# Altium footprint library conn_sw.PCBLIB: 173 footprints (part 1 of 11)
Each footprint in its own frame and in the unit in brackets; x right, y up, seen from the top. Pads: shape width x height; smd on the part's side, far side on the other; paste and mask are expansions set on the pad; w line width, h text height; cw(c..) or ccw(c..) is an arc to the next point about the centre after c.
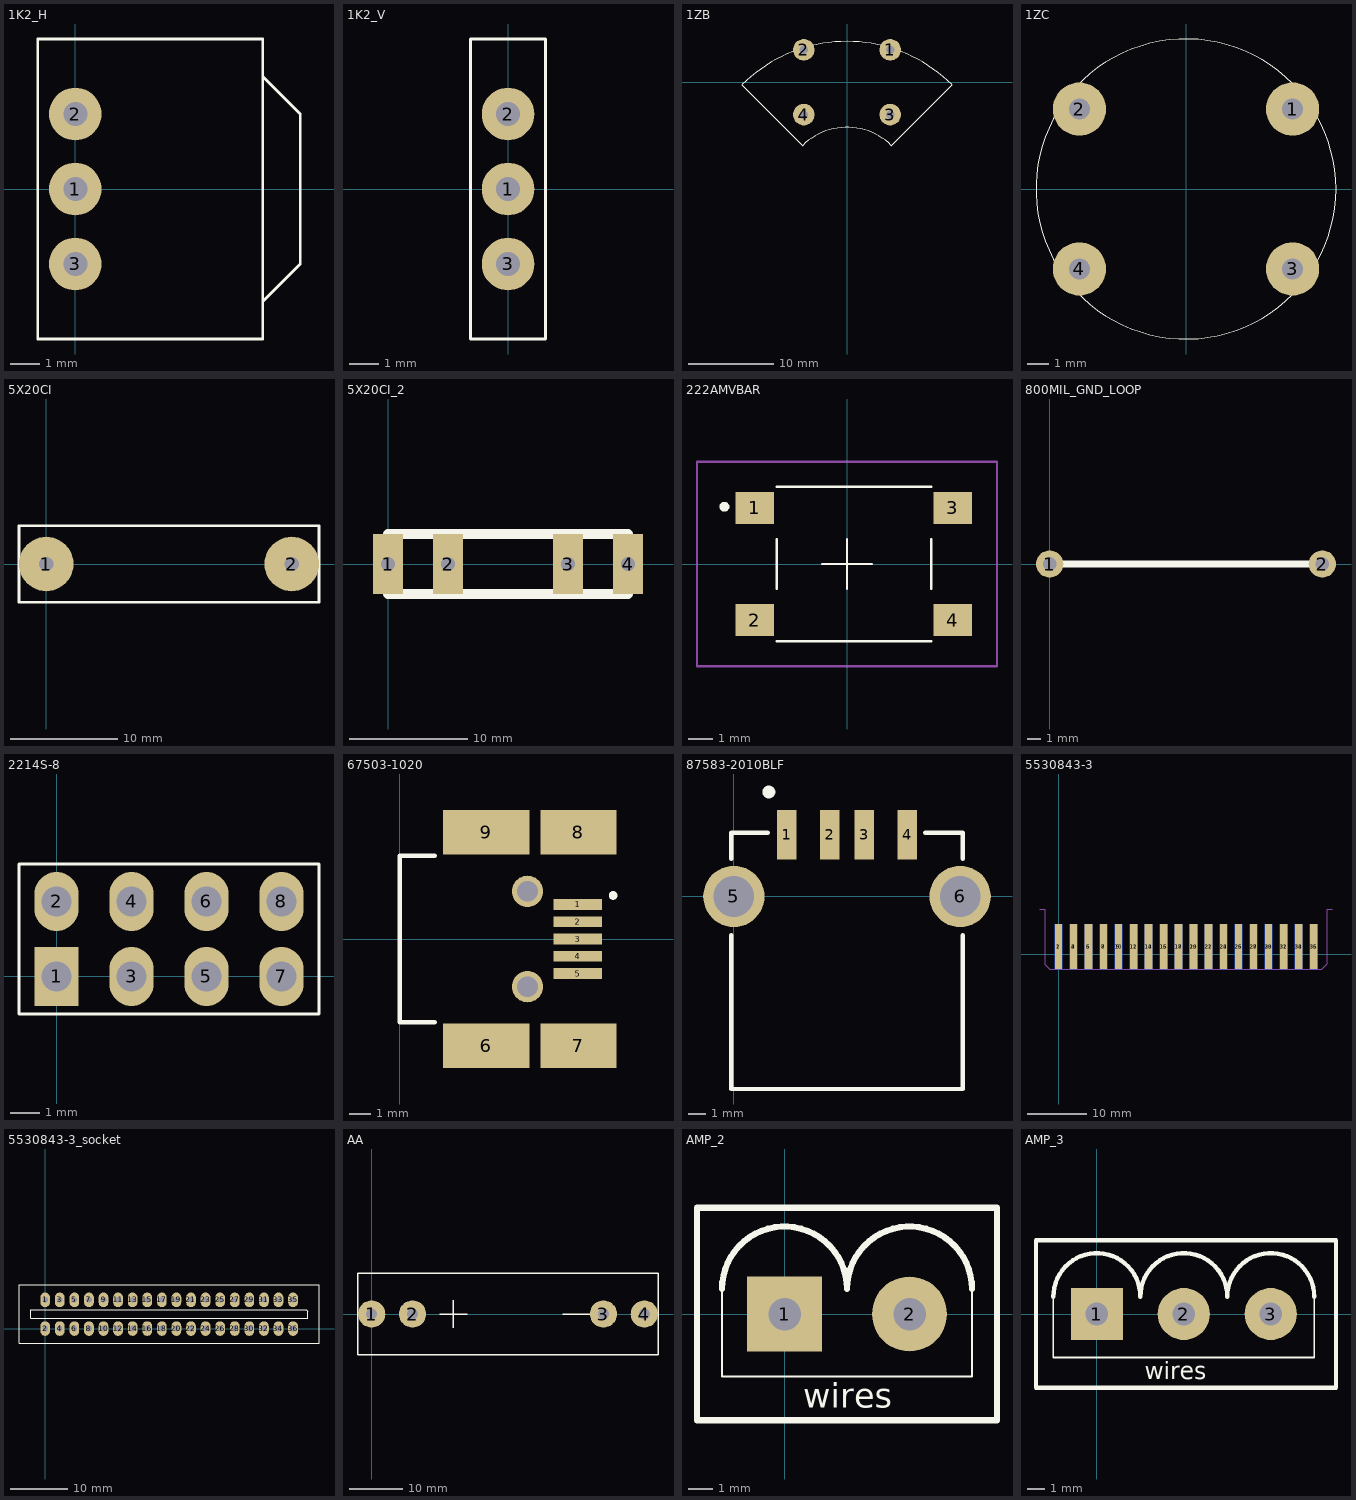
[diagram p0: the footprints below, top view; thin cyan lines are the x and y axes]

## 1K2_H [mil]
pads (3):
  round 70 hole 32: 1(0,0) 2(0,100) 3(0,-100)
Top Overlay:
  lines w3.94: 250,-150 300,-100 300,100 250,150 ; -50,-200 -50,200 250,200 250,-200 -50,-200

## 1K2_V [mil]
pads (3):
  round 70 hole 32: 1(0,0) 2(0,100) 3(0,-100)
Top Overlay:
  lines w3.94: -50,-200 50,-200 50,200 -50,200 -50,-200

## 1ZB [mil]
pads (4):
  round 100 hole 40: 1(200,150) 2(-200,150) 3(200,-150) 4(-200,-150)
Top Overlay:
  lines w2: -487.18,-12.82 cw(c0,-500) 487.18,-12.82 206.01,-293.99 ccw(c0,-500) -206.01,-293.99 -487.18,-12.82

## 1ZC [mil]
pads (4):
  round 100 hole 40: 1(200,150) 2(-200,150) 3(200,-150) 4(-200,-150)
Top Overlay:
  circle w2: c0,0 r281.5

## 5X20CI [mil]
pads (2):
  round 200 hole 52: 1(0,0) 2(900,0)
Top Overlay:
  lines w10: -100,-140 1000,-140 1000,140 -100,140 -100,-140

## 5X20CI_2 [mil]
pads (4):
  rect 100x200 hole 48: 1(0,0) 2(200,0) 3(600,0) 4(800,0)
Top Overlay:
  lines w32: 0,-100 800,-100 800,100 0,100 0,-100

## 222AMVBAR [mm]
pads (4):
  rect 1.55x1.3 smd: 1(-3.7,2.25) 2(-3.7,-2.25) 3(4.25,2.25) 4(4.25,-2.25)
Top Overlay:
  lines w0.1: -2.825,-3.1 3.375,-3.1 ; -2.825,-1 -2.825,1 ; -2.825,3.1 3.375,3.1 ; -1,0 1,0 ; 0,-1 0,1 ; 3.375,-1 3.375,1
  lines w0.2: -4.925,2.2 cw(c-4.925,2.3) -4.925,2.4 cw(c-4.925,2.3) -4.925,2.2
Mechanical 15:
  lines w0.1: -6.025,-4.1 -6.025,4.1 6.025,4.1 6.025,-4.1 -6.025,-4.1

## 800MIL_GND_LOOP [mil]
pads (2):
  round 80 hole 40: 1(0,0) 2(800,0)
Top Overlay:
  lines w20: 0,0 800,0

## 2214S-8 [mm]
pads (8):
  rect 1.5x2 hole 1: 1(0,0)
  oval 1.5x2 hole 1: 2(0,2.54) 3(2.54,0) 4(2.54,2.54) 5(5.08,0) 6(5.08,2.54) 7(7.62,0) 8(7.62,2.54)
Top Overlay:
  lines w0.1: -1.27,-1.27 -1.27,3.81 8.89,3.81 8.89,-1.27 -1.27,-1.27

## 67503-1020 [mm]
pads (11):
  rect 2.25x0.5 smd: 1(8.225,1.6) 2(8.225,0.8) 3(8.225,0) 4(8.225,-0.8) 5(8.225,-1.6)
  rect 4x2.05 smd: 6(4,-4.925) 9(4,4.925)
  rect 3.5x2.05 smd: 7(8.25,-4.925) 8(8.25,4.925)
  round 1.45 hole 0.95: ""(5.9,-2.2) ""(5.9,2.2)
Top Overlay:
  circle w0.2: c9.854,2.011 r0.101
  lines w0.2: 1.62,-3.85 0,-3.85 0,3.85 1.62,3.85
3D body "67503-1020.stp": height 0, standoff -9, extent -4.95,-3.05 4.95,1.9

## 87583-2010BLF [mm]
pads (6):
  rect 1.12x2.88 smd: 1(3.07,3.58) 2(5.57,3.58) 3(7.57,3.58) 4(10.07,3.58)
  round 3.56 hole 2.36: 5(0,0) 6(13.14,0)
Top Overlay:
  circle w0.4: c2.033,6.068 r0.174
  lines w0.254: -0.15,-2.25 -0.15,-11.18 13.29,-11.18 13.29,-2.25 ; -0.15,2.2 -0.15,3.7 1.963,3.7 ; 11.108,3.7 13.29,3.7 13.29,2.2

## 5530843-3 [mil]
pads (37):
  rect 50x300 smd far side: 1(0,50) 3(100,50) 5(200,50) 7(300,50) 9(400,50) 11(500,50) 13(600,50) 15(700,50) 17(800,50) 19(900,50) 21(1000,50) 23(1100,50) 25(1200,50) 27(1300,50) 29(1400,50) 31(1500,50) 33(1600,50) 35(1700,50)
  rect 50x300 smd: 2(0,50) 4(100,50) 6(200,50) 8(300,50) 10(400,50) 12(500,50) 14(600,50) 16(700,50) 18(800,50) 20(900,50) 22(1000,50) 24(1100,50) 26(1200,50) 28(1300,50) 30(1400,50) 32(1500,50) 34(1600,50) 36(1700,50)
  oval 50x300 on Top Solder: 3(100,50)
Mechanical 1:
  lines w8: -125,300 -90,300 -90,266.25 -90,238.75 -90,195 -90,25 -90,-18.75 -90,-46.25 -90,-70 -60,-100 ; -80,-80 -60,-100 ; 1825,300 1790,300 1790,-65 1755,-100 0,-100 -60,-100

## 5530843-3_socket [mm] "5530843-3_socket"
pads (36):
  oval 1.7x2.54 hole 1: 1(0,5) 2(0,0) 3(2.54,5) 4(2.54,0) 5(5.08,5) 6(5.08,0) 7(7.62,5) 8(7.62,0) 9(10.16,5) 10(10.16,0) 11(12.7,5) 12(12.7,0) 13(15.24,5) 14(15.24,0) 15(17.78,5) 16(17.78,0) 17(20.32,5) 18(20.32,0) 19(22.86,5) 20(22.86,0) 21(25.4,5) 22(25.4,0) 23(27.94,5) 24(27.94,0) 25(30.48,5) 26(30.48,0) 27(33.02,5) 28(33.02,0) 29(35.56,5) 30(35.56,0) 31(38.1,5) 32(38.1,0) 33(40.64,5) 34(40.64,0) 35(43.18,5) 36(43.18,0)
Top Overlay:
  lines w0.203: -4.56,-2.54 47.7,-2.54 47.7,7.62 -4.56,7.62 -4.56,-2.54 ; -2.54,1.778 -2.54,3.302 45.466,3.302 45.72,3.048 45.72,1.778 -2.54,1.778

## AA [mil]
pads (4):
  round 200 hole 80: 1(0,0) 2(300,0) 3(1700,0) 4(2000,0)
Top Overlay:
  lines w10: 500,0 700,0 ; 600,-100 600,-80 600,100 ; 1400,0 1600,0 ; -100,-300 2100,-300 2100,300 -100,300 -100,-300

## AMP_2 [mil]
pads (2):
  rect 120x120 hole 52: 1(0,0)
  round 120 hole 52: 2(200,0)
Top Overlay:
  lines w3.94: -100,40 -100,-100 300,-100 300,40
  lines w10: -100,40 cw(c0,40) 100,40 cw(c200,40) 300,40 ; -140,-170 340,-170 340,170 -140,170 -140,-170
  text "wires" at 30,-150 h39.37

## AMP_3 [mil]
pads (3):
  rect 120x120 hole 52: 1(0,0)
  round 120 hole 52: 2(200,0) 3(400,0)
Top Overlay:
  lines w3.94: -100,40 -100,-100 300,-100 500,-100 500,40
  lines w10: -100,40 cw(c0,40) 100,40 cw(c200,40) 300,40 cw(c400,40) 500,40 ; -140,-170 550,-170 550,170 -140,170 -140,-170
  text "wires" at 110,-150 h39.37